# EAGLE library part MC34063EBD-TR (library MC34063EBD-TR)
DC-DC Converter Control Circuit SOIC8 STMicroelectronics MC34063EBD-TR, Step Down, Step Up, Voltage Inverting DC-DC Converter, 1.5A, Adjustable Source: Datasheet <https://datasheet.datasheetarchive.com/originals/distributors/Datasheets-5/DSA-98626.pdf>
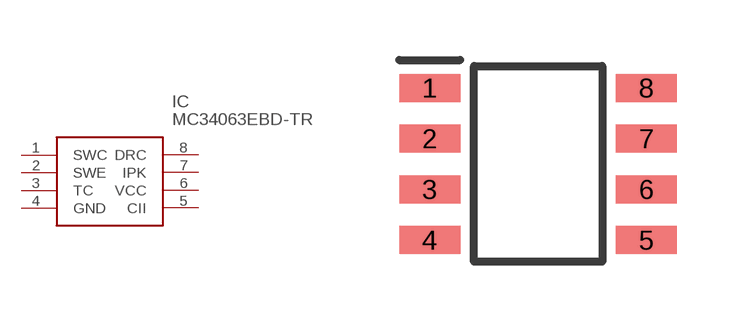
[diagram p0: symbol with the pads of SOIC127P600X175-8N; footprint SOIC127P600X175-8N]

Designator prefix IC

## MC34063EBD-TR (DESCRIPTION: DC-DC Converter Control Circuit SOIC8 STMicroelectronics MC34063EBD-TR, Step Down, Step Up, Voltage Inverting DC-DC Converter, 1.5A, Adjustable; HEIGHT: 1.75mm; MANUFACTURER_NAME: STMicroelectronics; MANUFACTURER_PART_NUMBER: MC34063EBD-TR)  [SOIC127P600X175-8N]
1  SWC
2  SWE
3  TC
4  GND  pwr
5  CII
6  VCC  pwr
7  IPK
8  DRC

## Footprint SOIC127P600X175-8N (pad centres in mm)
SO-8_3
smd 1.525 x 0.7: 1 -2.712,1.905; 2 -2.712,0.635; 3 -2.712,-0.635; 4 -2.712,-1.905; 5 2.712,-1.905; 6 2.712,-0.635; 7 2.712,0.635; 8 2.712,1.905